# EAGLE library part 649010227222 (library Wuerth_Elektronik_eiCan_07_Mini_Power_Connectors)
WR-MPC4-4.20mm Male Dual Row Angled Header with Mounting Pegs,10 pins
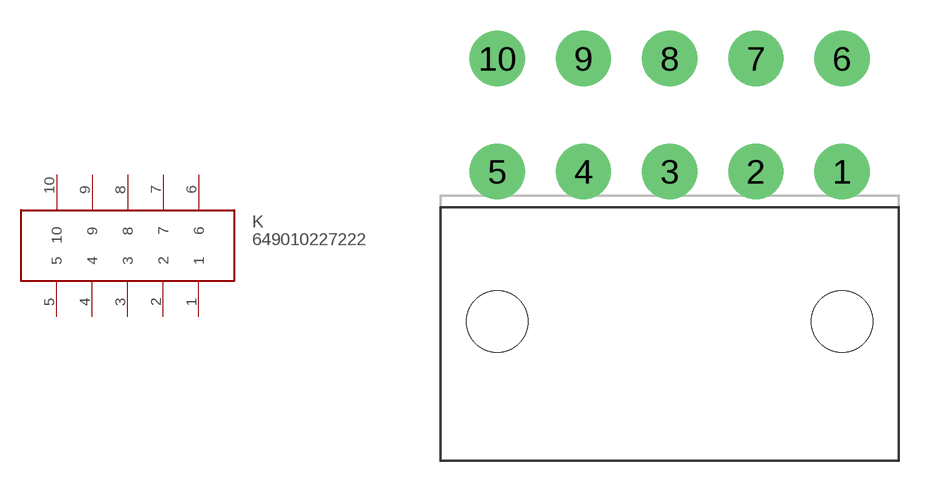
[diagram p12: symbol with the pads of 649010227222; footprint 649010227222]

Designator prefix K

## 649010227222  [649010227222]
1  1
2  2
3  3
4  4
5  5
6  6
7  7
8  8
9  9
10  10

## Footprint 649010227222 (pad centres in mm)
WR-MPC4-4.20mm Male Dual Row Angled Header with Mounting Pegs,10 pins
drill 1.8 round: 1 8.825,-2.75; 2 4.625,-2.75; 3 0.425,-2.75; 4 -3.775,-2.75; 5 -7.975,-2.75; 6 8.825,2.75; 7 4.625,2.75; 8 0.425,2.75; 9 -3.775,2.75; 10 -7.975,2.75
hole 3 at -7.975,-10.05
hole 3 at 8.825,-10.05